# EAGLE library part U893BSE (library telefunken)
1.3 GHz Prescaler for PLL?s in TV, CATV and SAT TV Tuners Source: TELEFUNKEN .. U893.pdf
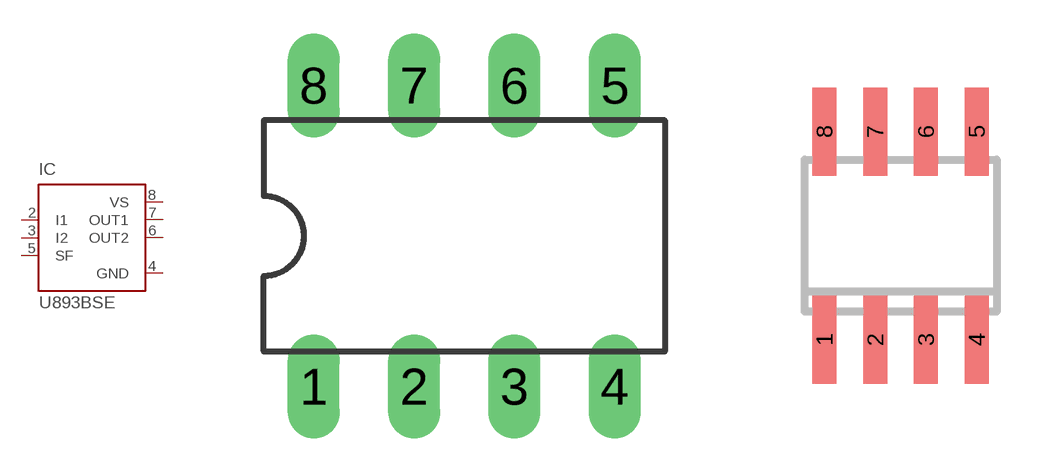
[diagram p1: symbol with the pads of DIL08; footprints DIL08, SO08]

Designator prefix IC

## U893BSE  [DIL08]
2  I1  in
3  I2  in
4  GND  pwr
5  SF  in
6  OUT2  out
7  OUT1  out
8  VS  pwr

## U893BSE-FP  [SO08]
Pads as for DIL08

## Footprint DIL08 (pad centres in mm)
Dual In Line Package
drill 0.813 long: 1 -3.81,-3.81; 2 -1.27,-3.81; 3 1.27,-3.81; 4 3.81,-3.81; 5 3.81,3.81; 6 1.27,3.81; 7 -1.27,3.81; 8 -3.81,3.81

## Footprint SO08 (pad centres in mm)
Small Outline Package 8 NS Package M08A
smd 0.6 x 2.2: 1 -1.905,-2.6; 2 -0.635,-2.6; 3 0.635,-2.6; 4 1.905,-2.6; 5 1.905,2.6; 6 0.635,2.6; 7 -0.635,2.6; 8 -1.905,2.6